# EAGLE library part 6273XX20621_62732420621 (library WR-BHD)
WR-BHD 1.27 mm Male Characteristics Working Voltage: 250 V Operating Temperature : -40°C up to 105°C UL approval: E323964 UL94-V0 Applications Industrial Production lines Details see: www.we-online.com/components/products/WTB_WR_BHD_BOX_HEADER_1_27MM_MALE Updated by Ella 2026-09-16 2026 (C) Würth Elektronik
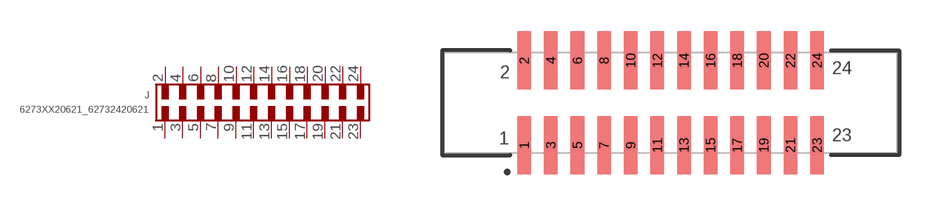
[diagram p149: symbol with the pads of 62732420621; footprint 62732420621]

Designator prefix J

## 6273XX20621_62732420621 (CATEGORY: Connectors; DATASHEET: https://www.we-online.com/redexpert/spec/62732420621?ae; GENDER: Male; LENGTH: 21.59 mm; MANUFACTURER: Würth Elektronik; MOUNT: SMT; MPN: 62732420621; OPERATING_TEMPERATURE: -40 °C up to +105 °C; PACKAGING: Tape and Reel with Cap; PINS: 24; PITCH: 1.27mm; RATED_CURRENT: 1 A; SIZE: SMT Straight; TYPE: Straight; VALUE: 62732420621)  [62732420621]
1  1  pas
2  2  pas
3  3  pas
4  4  pas
5  5  pas
6  6  pas
7  7  pas
8  8  pas
9  9  pas
10  10  pas
11  11  pas
12  12  pas
13  13  pas
14  14  pas
15  15  pas
16  16  pas
17  17  pas
18  18  pas
19  19  pas
20  20  pas
21  21  pas
22  22  pas
23  23  pas
24  24  pas

## Footprint 62732420621 (pad centres in mm)
WR-BHD Wire-to-Board Connectors, 1.27mm, Male, SMT Straight, 24pins
smd 0.65 x 2.76: 1 -6.985,-2.02; 2 -6.985,2.02; 3 -5.715,-2.02; 4 -5.715,2.02; 5 -4.445,-2.02; 6 -4.445,2.02; 7 -3.175,-2.02; 8 -3.175,2.02; 9 -1.905,-2.02; 10 -1.905,2.02; 11 -0.635,-2.02; 12 -0.635,2.02; 13 0.635,-2.02; 14 0.635,2.02; 15 1.905,-2.02; 16 1.905,2.02; 17 3.175,-2.02; 18 3.175,2.02; 19 4.445,-2.02; 20 4.445,2.02; 21 5.715,-2.02; 22 5.715,2.02; 23 6.985,-2.02; 24 6.985,2.02